# Altium footprint library SamacSys.PcbLib: 7 footprints
Each footprint in its own frame and in the unit in brackets; x right, y up, seen from the top. Pads: shape width x height; smd on the part's side, far side on the other; paste and mask are expansions set on the pad; w line width, h text height; cw(c..) or ccw(c..) is an arc to the next point about the centre after c.
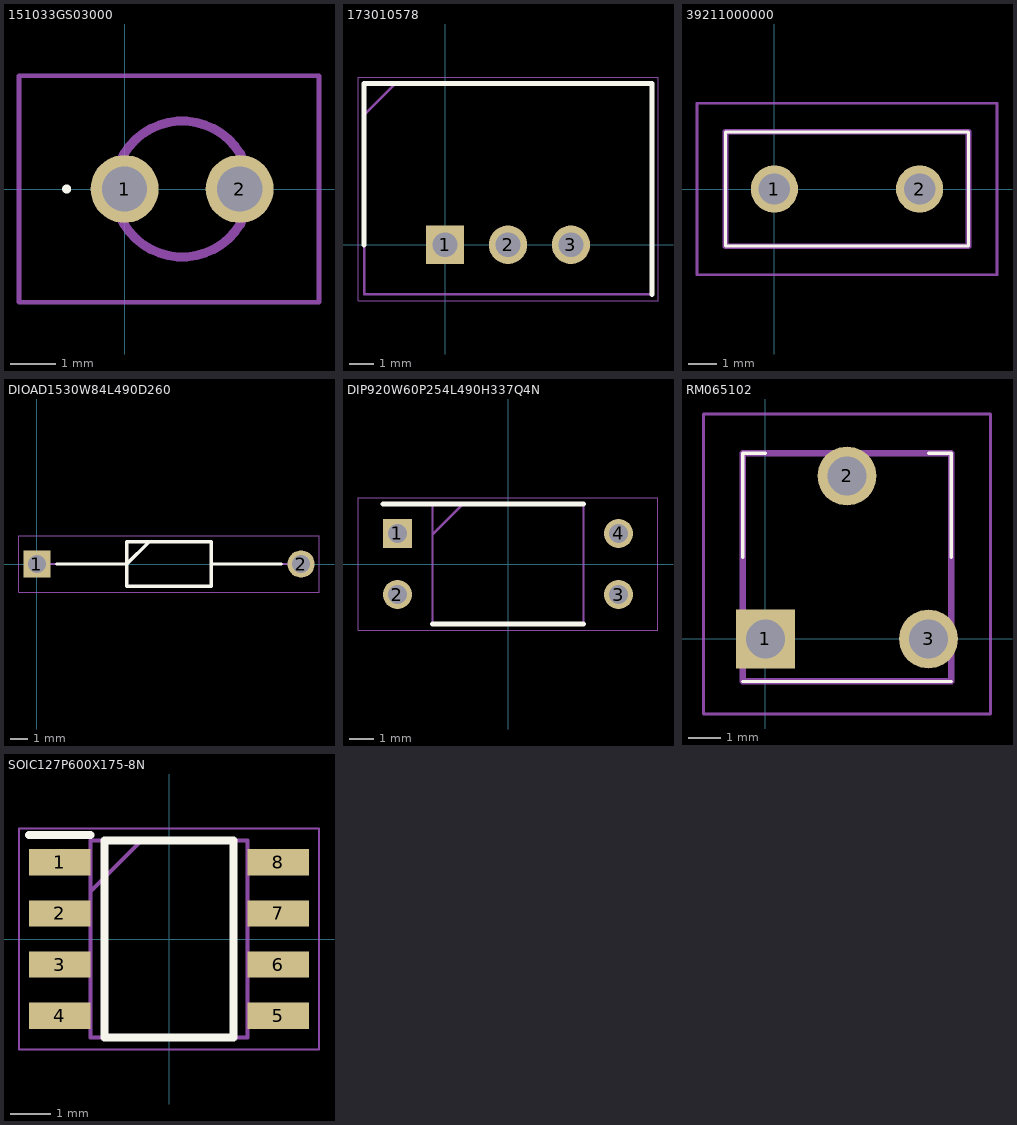
[diagram p0: the footprints below, top view; thin cyan lines are the x and y axes]

## 151033GS03000 [mm]
pads (2):
  round 1.5 hole 1: 1(0,0) 2(2.54,0)
Top Overlay:
  lines w0.1: -1.33,0 cw(c-1.28,0) -1.23,0 cw(c-1.28,0) -1.33,0
Mechanical 13:
  lines w0.2: -0.23,0 cw(c1.27,0) 2.77,0 cw(c1.27,0) -0.23,0
Mechanical 15:
  lines w0.1: -2.33,-2.5 -2.33,2.5 4.29,2.5 4.29,-2.5 -2.33,-2.5
3D body "151033GS03000.stp": height 5.65, standoff -5, extent -0.397,-1.5 2.94,1.5

## 173010578 [mm]
pads (3):
  rect 1.55x1.55 hole 1: 1(0,0)
  round 1.55 hole 1: 2(2.54,0) 3(5.08,0)
Top Overlay:
  lines w0.2: -3.26,0 -3.26,6.5 8.34,6.5 8.34,-2
Mechanical 13:
  lines w0.1: -3.26,5.23 -1.99,6.5 ; -3.26,-2 8.34,-2 8.34,6.5 -3.26,6.5 -3.26,-2
Mechanical 15:
  lines w0.05: -3.51,-2.25 8.59,-2.25 8.59,6.75 -3.51,6.75 -3.51,-2.25

## 39211000000 [mm]
pads (2):
  round 1.65 hole 1.1: 1(0,0) 2(5.08,0)
Top Overlay:
  lines w0.1: -1.71,-2 -1.71,2 6.79,2 6.79,-2 -1.71,-2
Mechanical 13:
  lines w0.2: -1.71,-2 -1.71,2 6.79,2 6.79,-2 -1.71,-2
Mechanical 15:
  lines w0.1: -2.71,-3 -2.71,3 7.79,3 7.79,-3 -2.71,-3
3D body "39211000000.stp": height 8.1, standoff -5, extent -1.71,-2 6.79,2

## DIOAD1530W84L490D260 [mm]
pads (2):
  rect 1.575x1.575 hole 1.05: 1(0,0)
  round 1.575 hole 1.05: 2(15.3,0)
Top Overlay:
  lines w0.2: 1.138,0 5.2,0 6.5,1.3 ; 10.1,0 14.162,0 ; 5.2,-1.3 5.2,1.3 10.1,1.3 10.1,-1.3 5.2,-1.3
Mechanical 13:
  lines w0.1: 0,0 5.2,0 6.5,1.3 ; 10.1,0 15.3,0 ; 5.2,-1.3 5.2,1.3 10.1,1.3 10.1,-1.3 5.2,-1.3
Mechanical 15:
  lines w0.05: -1.038,-1.65 -1.038,1.65 16.337,1.65 16.337,-1.65 -1.038,-1.65
3D body "1N4001.stp": height 2.79, standoff -2.8, extent -0.417,-1.397 15.72,1.397

## DIP920W60P254L490H337Q4N [mm]
pads (4):
  rect 1.2x1.2 hole 0.8: 1(-4.602,1.27)
  round 1.2 hole 0.8: 2(-4.602,-1.27) 3(4.602,-1.27) 4(4.602,1.27)
Top Overlay:
  lines w0.2: -5.202,2.5 3.145,2.5 ; -3.145,-2.5 3.145,-2.5
Mechanical 13:
  lines w0.1: -3.145,1.23 -1.875,2.5 ; -3.145,-2.5 3.145,-2.5 3.145,2.5 -3.145,2.5 -3.145,-2.5
Mechanical 15:
  lines w0.05: -6.245,-2.75 6.245,-2.75 6.245,2.75 -6.245,2.75 -6.245,-2.75
3D body "IRLD110PBF.stp": height 3.37, standoff -3.5, extent -4.753,-2.45 4.753,2.45

## RM065102 [mm]
pads (3):
  rect 1.8x1.8 hole 1.2: 1(0,0)
  round 1.8 hole 1.2: 2(2.5,5) 3(5,0)
Top Overlay:
  lines w0.1: -0.7,-1.3 5.7,-1.3 ; -0.7,2.5 -0.7,5.7 0,5.7 ; 5,5.7 5.7,5.7 5.7,2.5
Mechanical 13:
  lines w0.2: -0.7,-1.3 -0.7,5.7 5.7,5.7 5.7,-1.3 -0.7,-1.3
Mechanical 15:
  lines w0.1: -1.9,-2.3 -1.9,6.9 6.9,6.9 6.9,-2.3 -1.9,-2.3
3D body "RM-065-102.stp": height 7.6, standoff -5, extent -0.7,-1.3 5.7,5.7

## SOIC127P600X175-8N [mm]
pads (8):
  rect 1.525x0.65 smd: 1(-2.712,1.905) 2(-2.712,0.635) 3(-2.712,-0.635) 4(-2.712,-1.905) 5(2.712,-1.905) 6(2.712,-0.635) 7(2.712,0.635) 8(2.712,1.905)
Top Overlay:
  lines w0.2: -3.475,2.58 -1.95,2.58 ; -1.6,-2.45 -1.6,2.45 1.6,2.45 1.6,-2.45 -1.6,-2.45
Mechanical 13:
  lines w0.1: -1.95,1.18 -0.68,2.45 ; -1.95,-2.45 -1.95,2.45 1.95,2.45 1.95,-2.45 -1.95,-2.45
Mechanical 15:
  lines w0.05: -3.725,-2.75 -3.725,2.75 3.725,2.75 3.725,-2.75 -3.725,-2.75
3D body "NE555DR.stp": height 1.75, standoff 0, extent -3,-2.45 3,2.45